# Altium schematic symbol library VESC_MotorController.SCHLIB: 43 symbols
Pins are listed as number, name and electrical type; pins without a type are passive.

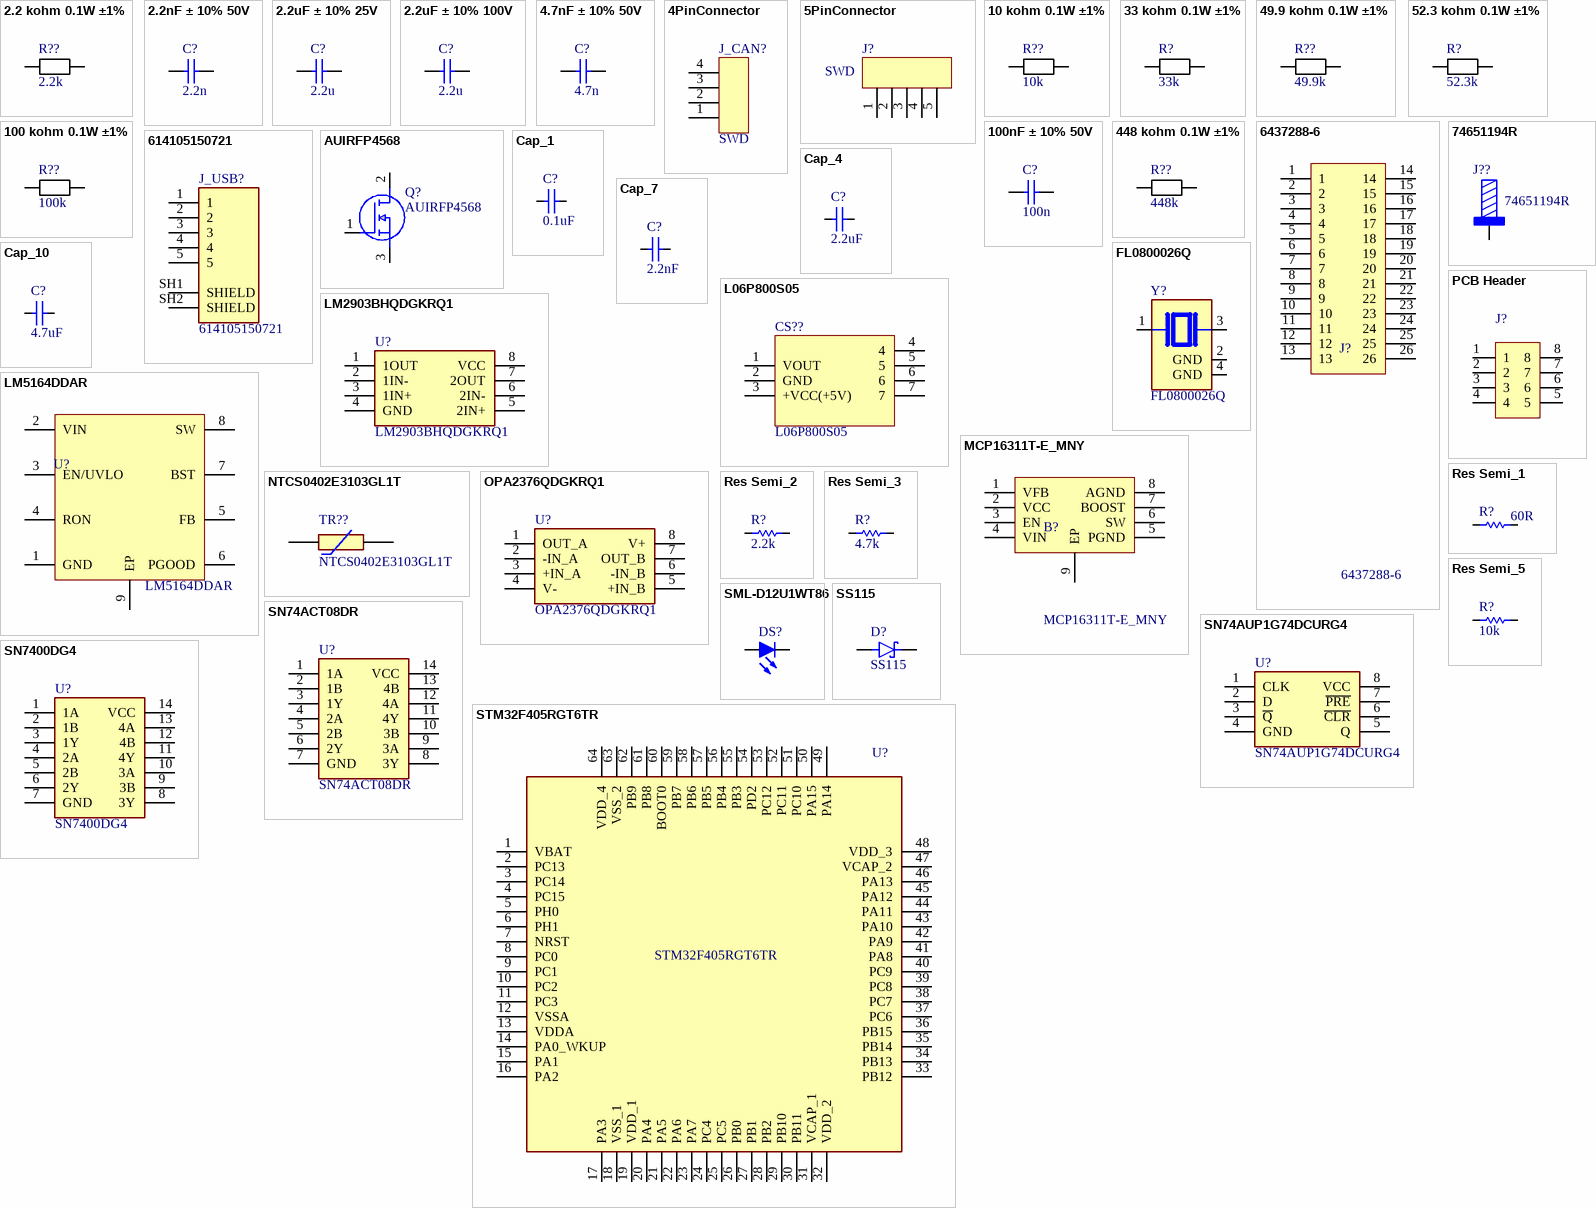
[diagram p0: symbols 2.2 kohm 0.1W ±1% to STM32F405RGT6TR]

## 2.2 kohm 0.1W ±1%
designator R??, comment 2.2k
2.2 kohm 0.1W ±1%; Manufacturer Part Number: RC0603FR-072K2L; Manufacturer: Yageo; Value: 2.2k; Supplier: Mouser; Supplier Part Number: 603-RC0603FR-072K2L; Price: 0.1
footprint R0603 (Footprint not found)
pins: 1, 2

## 2.2nF ± 10% 50V
designator C?, comment 2.2n
2.2nF ± 10% 50V; Manufacturer: Yageo; Price: 0.1; Supplier: Mouser; Value: 2.2n
footprint C0603 (Footprint not found)
pins: 1, 2

## 2.2uF ± 10% 25V
designator C?, comment 2.2u
2.2uF ± 10% 25V; Value: 2.2u
footprint * (Footprint not found)
pins: 1, 2

## 2.2uF ± 10% 100V
designator C?, comment 2.2u
2.2uF ± 10% 100V; Value: 2.2u
footprint * (Footprint not found)
pins: 1, 2

## 4.7nF ± 10% 50V
designator C?, comment 4.7n
4.7nF ± 10% 50V; Manufacturer: Yageo; Price: 0.1; Supplier: Mouser; Value: 4.7n
footprint C0603 (Footprint not found)
pins: 1, 2

## 4PinConnector
designator J_CAN?, comment SWD
4PinConnector
footprint Header-2.54m-4pin
pins: 1, 2, 3, 4

## 5PinConnector
designator J?, comment SWD
5PinConnector
footprint Header-2.54m-5pin
pins: 1, 2, 3, 4, 5

## 10 kohm 0.1W ±1%
designator R??, comment 10k
10 kohm 0.1W ±1%; Manufacturer Part Number: RC0603FR-0710KL; Manufacturer: Yageo; Value: 10k; Supplier: Mouser; Supplier Part Number: 603-RC0603FR-0710KL; Price: 0.1
footprint R0603 (Footprint not found)
pins: 1, 2

## 33 kohm 0.1W ±1%
designator R?, comment 33k
33 kohm 0.1W ±1%; Manufacturer Part Number: RC0603FR-0733KL; Manufacturer: Yageo; Value: 33k; Supplier: Mouser; Supplier Part Number: 603-RC0603FR-0733KL; Price: 0.1
footprint R0603 (Footprint not found)
pins: 1, 2

## 49.9 kohm 0.1W ±1%
designator R??, comment 49.9k
49.9 kohm 0.1W ±1%; Manufacturer Part Number: RC0603FR-0749K9L; Manufacturer: Yageo; Value: 49.9k; Supplier: Mouser; Supplier Part Number: 603-RC0603FR-0749K9L; Price: 0.1
footprint R0603 (Footprint not found)
pins: 1, 2

## 52.3 kohm 0.1W ±1%
designator R?, comment 52.3k
52.3 kohm 0.1W ±1%; Manufacturer Part Number: RC0603FR-0752K3L; Manufacturer: Yageo; Value: 52.3k; Supplier: Mouser; Supplier Part Number: 603-RC0603FR-0752K3L; Price: 0.1
footprint R0603 (Footprint not found)
pins: 1, 2

## 100 kohm 0.1W ±1%
designator R??, comment 100k
100 kohm 0.1W ±1%; Manufacturer Part Number: RC0603FR-07100KL; Manufacturer: Yageo; Value: 100k; Supplier: Mouser; Supplier Part Number: 603-RC0603FR-07100KL; Price: 0.1
footprint R0603 (Footprint not found)
pins: 1, 2

## 100nF ± 10% 50V
designator C?, comment 100n
100nF ± 10% 50V; Manufacturer: Yageo; Manufacturer Part Number: CC0603KRX7R9BB104; Supplier Part Number: 603-CC603KRX7R9BB104; Price: 0.1; Supplier: Mouser; Value: 100n
footprint C0603 (Footprint not found)
pins: 1, 2

## 448 kohm 0.1W ±1%
designator R??, comment 448k
448 kohm 0.1W ±1%; Manufacturer Part Number: RC0603FR-07448KL; Manufacturer: Yageo; Value: 448k; Supplier: Mouser; Supplier Part Number: 603-RC0603FR-07448KL; Price: 0.1
footprint R0603 (Footprint not found)
pins: 1, 2

## 6437288-6
designator J?
Header vert 26 way 4 row Tab Superseal; Manufacturer: TE Connectivity; Supplier Part Number: 571-6437288-6; Manufacturer Part Number: 6437288-6; Supplier: Mouser; Value: 6437288-6
footprint 64372886
pins: 1, 2, 3, 4, 5, 6, 7, 8, 9, 10, 11, 12, 13, 14, 15, 16, 17, 18, 19, 20, 21, 22, 23, 24, 25, 26

## 74651194R
designator J??
WP-THRSH REDCUBE THR with external thread, M4 x 5mm, 85A; Manufacturer: Wurth Elektronik; Surface: Tin; ComponentLink1Description: Website Link; ComponentLink1URL: https://www.we-online.com/redexpert/article/74651194R?ad; ComponentLink2Description: Datasheet Link; ComponentLink2URL: https://www.we-online.com/redexpert/spec/74651194R?ad; Manufacturer Part Number: 74651194R; Category: REDCUBE THR; Match Code: WP-THRSH; Mount: Through Hole Reflow; Operating Temperature Max: 150°C; Operating Temperature Min: -55°C; Packaging: Tape and Reel; Length: 10mm; Width: 10mm; Height: 8.5mm; Material: Brass; Number of Pins: 9; Rated Current: 85A; Thread Length: 5mm; Thread Size: M4; Supplier: Mouser; Supplier Part Number: 710-74651195R; Price: 3.5; Value: 74651194R
footprint 74651194 (Shank, THR, 9 pins, 10x10mm, M4, thread 5mm)
pins: 1

## 614105150721
designator J_USB?
USB - micro B USB 2.0 Receptacle Connector 5 Position Through Hole; MF: Wurth Electronics; Package: None; Digi-Key_Part_Number: 732-5958-1-ND; MP: 614105150721; SnapEDA_Link: https://www.snapeda.com/parts/614105150721/Wurth%20Electronics%20Inc./view-part/1118291/?ref=snap; Value: *; Digi-Key_Purchase_URL: https://www.digikey.com/product-detail/en/w-rth-elektronik/614105150721/732-5958-1-ND/5047553?utm_source=snapeda&utm_medium=aggregator&utm_campaign=symbol
footprint WURTH_614105150721
pins: 1, 2, 3, 4, 5, SH1 SHIELD, SH2 SHIELD

## AUIRFP4568
designator Q?
MOSFET N-CHANNEL 100+; Manufacturer_Name: Infineon; Geometry.Height: 5.31mm; Mouser Part Number: 942-AUIRFP4568; Mouser Price/Stock: https://www.mouser.co.uk/ProductDetail/Infineon-IR/AUIRFP4568?qs=m1T3c8F5IUIdoWYie9aRBg%3D%3D; Manufacturer_Part_Number: AUIRFP4568; Datasheet Link: https://www.infineon.com/dgdl/auirfp4568.pdf?fileId=5546d462533600a4015355b1d8751458
footprint TO546P531X1558X2499-3P
pins: 1 G, 2 D, 3 S

## Cap_1
designator C?, comment 0.1uF
Multilayer Ceramic Capacitors MLCC - SMD/SMT 50 V 0.1uF X7R 0603 10%; Manufacturer: Yageo; Manufacturer Part Number: CC0603KPX7R9BB104; Supplier 1: Digi-Key; Supplier Part Number 1: 311-3567-1-ND
footprint SMD_C(0402)
simulation model CAP (Capacitor)
signal-integrity model Cap
pins: 1, 2

## Cap_4
designator C?, comment 2.2uF
Multilayer Ceramic Capacitors MLCC - SMD/SMT 2.2 uF 50 VDC 10% 1206 X7R AEC-Q200; Manufacturer: Yageo; Manufacturer Part Number: GCM31CR71H225KA55K; Supplier 1: Digi-Key; Supplier Part Number 1: 311-3567-1-ND
footprint SMD_C(0603)
simulation model CAP (Capacitor)
signal-integrity model Cap
pins: 1, 2

## Cap_7
designator C?, comment 2.2nF
PHE840MA6100MA04R17; Manufacturer: Yageo; Manufacturer Part Number: CC0603KPX7R9BB104; Supplier 1: Digi-Key; Supplier Part Number 1: 311-3567-1-ND
footprint SMD_C(0402)
simulation model CAP (Capacitor)
signal-integrity model Cap
pins: 1, 2

## Cap_10
designator C?, comment 4.7uF
PHE840MA6100MA04R17; Manufacturer: Yageo; Manufacturer Part Number: CC0603KPX7R9BB104; Supplier 1: Digi-Key; Supplier Part Number 1: 311-3567-1-ND
footprint SMD_C(0603)
simulation model CAP (Capacitor)
signal-integrity model Cap
pins: 1, 2

## FL0800026Q
designator Y?
8 MHz Â±30ppm Crystal 8pF 400 Ohms 4-SMD, No Lead; MF: Diodes Incorporated; Package: NON STANDARD-4 Diodes Inc.; Price: None; Check_prices: https://www.snapeda.com/parts/FL0800026Q/Diodes+Inc./view-part/?ref=eda; Value: *; SnapEDA_Link: https://www.snapeda.com/parts/FL0800026Q/Diodes+Inc./view-part/?ref=snap; MP: FL0800026Q; Availability: In Stock; Purchase-URL: https://pricing.snapeda.com/search?q=FL0800026Q&ref=eda
footprint XTAL_FL0800026Q
pins: 1, 2 GND (power), 3 2, 4 GND (power)

## L06P800S05
designator CS??
Board Mount Current Sensors Current Sensor, +/-800A, +5VDC, PCB, Open Loop, Aperture, 2.5V+/-1.5V Output; Manufacturer: Tamura; Supplier Part Number: 838-L06P800S05; Price: 20; Manufacturer Part Number: L06P800S05; Value: L06P800S05; Supplier: Mouser
footprint L06P800S05
pins: 1 VOUT, 2 GND, 3 +VCC(+5V), 4, 5, 6, 7

## LM2903BHQDGKRQ1
designator U?
Analog Comparators Automotive, dual, differential, commodity comparator; Manufacturer_Name: Texas Instruments; Geometry.Height: 1.1mm; Mouser Part Number: 595-LM2903BHQDGKRQ1; Mouser Price/Stock: https://www.mouser.co.uk/ProductDetail/Texas-Instruments/LM2903BHQDGKRQ1?qs=By6Nw2ByBD2mW87GUmotXw%3D%3D; Manufacturer_Part_Number: LM2903BHQDGKRQ1; Datasheet Link: https://www.ti.com/lit/ds/symlink/lm2903b-q1.pdf?HQS=dis-mous-null-mousermode-dsf-pf-null-wwe&ts=1670767488652&ref_url=https%253A%252F%252Fwww.mouser.de%252F
footprint SOP65P490X110-8N
pins: 1 1OUT, 2 1IN-, 3 1IN+, 4 GND, 5 2IN+, 6 2IN-, 7 2OUT, 8 VCC

## LM5164DDAR
designator U?
Texas Instruments 6-V to 100-V Input, 1-A Synchronous Buck DC-DC Converter With Ultra-Low IQ 8-SO PowerPAD -40 to 150; Value: 1.7mm; Supplier Part Number: 595-LM5164DDAR; Price: 3.5; Manufacturer: Texas Instruments; Manufacturer Part Number: LM5164DDAR; Supplier: Mouser
footprint SOIC-8(EPAD) (Footprint not found)
pins: 1 GND, 2 VIN, 3 EN/UVLO, 4 RON, 5 FB, 6 PGOOD, 7 BST, 8 SW, 9 EP

## MCP16311T-E_MNY
designator B?
Microchip, MCP16311T-E/MNY Step Down DC-DC Converter 1A Adjustable, 2  24 V 8-Pin, TDFN; Supplier Part Number: 579-MCP16311T-E/MNY; Price: 1.8; Manufacturer: Microchip; Manufacturer Part Number: MCP16311T-E/MNY; Value: MCP16311T-E/MNY; Supplier: Mouser
footprint MSOP-8
pins: 1 VFB, 2 VCC, 3 EN, 4 VIN, 5 PGND, 6 SW, 7 BOOST, 8 AGND, 9 EP

## NTCS0402E3103GL1T
designator TR??
NTC Thermistors 10Kohms 2% AEC-Q200; Manufacturer_Name: Vishay; Geometry.Height: 0.65mm; Mouser Part Number: 594-NTCS402E3103GL1T; Mouser Price/Stock: https://www.mouser.co.uk/ProductDetail/Vishay-BC-Components/NTCS0402E3103GL1T?qs=u16ybLDytRYI8lwq3wWutw%3D%3D; Manufacturer_Part_Number: NTCS0402E3103GL1T; Datasheet Link: https://www.mouser.in/datasheet/2/427/ntcs0402e3t-1762119.pdf
footprint THRMC1005X65N
pins: 1, 2

## OPA2376QDGKRQ1
designator U?
Low Noise, Low Quiescent Current, Precision Operational Amplifier e-trim/trade; Manufacturer_Name: Texas Instruments; Geometry.Height: 1.1mm; Mouser Part Number: 595-OPA2376QDGKRQ1; Mouser Price/Stock: https://www.mouser.co.uk/ProductDetail/Texas-Instruments/OPA2376QDGKRQ1?qs=zEmsApcVOkU338m46%2F1O7A%3D%3D; Manufacturer_Part_Number: OPA2376QDGKRQ1; Datasheet Link: http://www.ti.com/lit/gpn/opa2376-q1
footprint SOP65P490X110-8N
pins: 1 OUT_A, 2 -IN_A, 3 +IN_A, 4 V-, 5 +IN_B, 6 -IN_B, 7 OUT_B, 8 V+

## PCB Header
designator J?
2 Row 2.54mm Pitch 8 pins
footprint * (Footprint not found)
pins: 1, 2, 3, 4, 5, 6, 7, 8

## Res Semi_1
designator R?, comment 60R
CRCW04024R02FKED; Published: 8-Jun-2000; LatestRevisionDate: 17-Jul-2002; LatestRevisionNote: Re-released for DXP Platform.; PackageReference: AXIAL-0.5; Publisher: Altium Limited; PackageDescription: Axial Device, Thru-Hole; 2 Leads; 0.5 in Pin Spacing
footprint SMD_R(0402)
simulation model RES (Semiconductor Resistor)
signal-integrity model Res Semi
pins: 1, 2

## Res Semi_2
designator R?, comment 2.2k
CRCW04024R02FKED; Published: 8-Jun-2000; LatestRevisionDate: 17-Jul-2002; LatestRevisionNote: Re-released for DXP Platform.; PackageReference: AXIAL-0.5; Publisher: Altium Limited; PackageDescription: Axial Device, Thru-Hole; 2 Leads; 0.5 in Pin Spacing
footprint SMD_R(0402)
simulation model RES (Semiconductor Resistor)
signal-integrity model Res Semi
pins: 1, 2

## Res Semi_3
designator R?, comment 4.7k
CRCW04024R02FKED; Published: 8-Jun-2000; LatestRevisionDate: 17-Jul-2002; LatestRevisionNote: Re-released for DXP Platform.; PackageReference: AXIAL-0.5; Publisher: Altium Limited; PackageDescription: Axial Device, Thru-Hole; 2 Leads; 0.5 in Pin Spacing
footprint SMD_R(0402)
simulation model RES (Semiconductor Resistor)
signal-integrity model Res Semi
pins: 1, 2

## Res Semi_5
designator R?, comment 10k
CRCW04024R02FKED; Published: 8-Jun-2000; LatestRevisionDate: 17-Jul-2002; LatestRevisionNote: Re-released for DXP Platform.; PackageReference: AXIAL-0.5; Publisher: Altium Limited; PackageDescription: Axial Device, Thru-Hole; 2 Leads; 0.5 in Pin Spacing
footprint SMD_R(0402)
simulation model RES (Semiconductor Resistor)
signal-integrity model Res Semi
pins: 1, 2

## SML-D12U1WT86
designator DS?  (value not drawn)
Typical RED GaAs LED; Manufacturer: Rohm Semiconductor; Supplier: Mouser; Supplier Part Number: 755-SML-D12U1WT86; Manufacturer Part Number: SML-D12U1WT86; Value: SML-D12U1WT86; Price: 0.2
footprint LED0603 (Footprint not found)
footprint LED0603
pins: A, C

## SN74ACT08DR
designator U?
Texas Instruments SN74ACT08DR, AND Quad 2 Input AND, 4.5  5.5 V, 14-Pin SOIC; Geometry.Height: 1.75mm; Mouser Part Number: 595-SN74ACT08DR; Mouser Price/Stock: https://www.mouser.co.uk/ProductDetail/Texas-Instruments/SN74ACT08DR?qs=AMJt07B76uu%2FkRdXJtIwhw%3D%3D; Manufacturer_Name: Texas Instruments; Manufacturer_Part_Number: SN74ACT08DR; Datasheet Link: http://www.ti.com/lit/gpn/sn74act08
footprint SOIC127P600X175-14N
pins: 1 1A, 2 1B, 3 1Y, 4 2A, 5 2B, 6 2Y, 7 GND, 8 3Y, 9 3A, 10 3B, 11 4Y, 12 4A, 13 4B, 14 VCC

## SN74AUP1G74DCURG4
designator U?
Flip Flops Lo PWR SNGL Pos Edge Trgrd DType FlipFlop; Manufacturer_Name: Texas Instruments; Geometry.Height: 0.9mm; Mouser Part Number: 595-74AUP1G74DCURG4; Mouser Price/Stock: https://www.mouser.co.uk/ProductDetail/Texas-Instruments/SN74AUP1G74DCURG4?qs=7kv20MEVUlhYDCdFtbMd%2FA%3D%3D; Manufacturer_Part_Number: SN74AUP1G74DCURG4; Datasheet Link: *
footprint SOP50P310X90-8N
pins: 1 CLK, 2 D, 3 ~{Q}, 4 GND, 5 Q, 6 ~{CLR}, 7 ~{PRE}, 8 VCC

## SN7400DG4
designator U?
NAND Gate 4-Element 2-IN Bipolar 14-Pin SOIC Tube; Manufacturer_Name: Texas Instruments; Geometry.Height: 1.75mm; Mouser Part Number: 595-SN7400DG4; Mouser Price/Stock: https://www.mouser.co.uk/ProductDetail/Texas-Instruments/SN7400DG4?qs=E8lYj0tdJGGtKkNRXTqCCA%3D%3D; Manufacturer_Part_Number: SN7400DG4; Datasheet Link: https://www.arrow.com/en/products/sn7400dg4/texas-instruments
footprint SOIC127P600X175-14N
pins: 1 1A, 2 1B, 3 1Y, 4 2A, 5 2B, 6 2Y, 7 GND, 8 3Y, 9 3B, 10 3A, 11 4Y, 12 4B, 13 4A, 14 VCC

## SS115
designator D?
1A, 150V, Schottky Rectifier; MF: Taiwan Semiconductor; Package: DO-214AC-2 Taiwan Semiconductor; Check_prices: https://www.snapeda.com/parts/SS115/Taiwan+Semiconductor/view-part/?ref=eda; Value: *; Price: None; Purchase-URL: https://pricing.snapeda.com/search/part/SS115/?ref=eda; MP: SS115; SnapEDA_Link: https://www.snapeda.com/parts/SS115/Taiwan+Semiconductor/view-part/?ref=snap; Availability: In Stock
footprint DIOM4325X250N
pins: A, C K

## STM32F405RGT6TR
designator U?
STM32F405RGT6TR, 32 bit ARM Cortex M4 MCU 168MHz 1024 kB Flash, 192 kB RAM, 2xUSB CAN I2C 64-Pin LQFP; Manufacturer_Name: STMicroelectronics; Geometry.Height: 1.6mm; Mouser Part Number: 511-STM32F405RGT6TR; Mouser Price/Stock: https://www.mouser.co.uk/ProductDetail/STMicroelectronics/STM32F405RGT6TR?qs=MavH1QghrkHshpR6GkvPIg%3D%3D; Manufacturer_Part_Number: STM32F405RGT6TR; Datasheet Link: http://www.st.com/web/en/resource/technical/document/datasheet/DM00037051.pdf
footprint QFP50P1200X1200X160-64N
pins: 1 VBAT, 2 PC13, 3 PC14, 4 PC15, 5 PH0, 6 PH1, 7 NRST, 8 PC0, 9 PC1, 10 PC2, 11 PC3, 12 VSSA, 13 VDDA, 14 PA0_WKUP, 15 PA1, 16 PA2, 17 PA3, 18 VSS_1, 19 VDD_1, 20 PA4, 21 PA5, 22 PA6, 23 PA7, 24 PC4, 25 PC5, 26 PB0, 27 PB1, 28 PB2, 29 PB10, 30 PB11, 31 VCAP_1, 32 VDD_2, 33 PB12, 34 PB13, 35 PB14, 36 PB15, 37 PC6, 38 PC7, 39 PC8, 40 PC9, 41 PA8, 42 PA9, 43 PA10, 44 PA11, 45 PA12, 46 PA13, 47 VCAP_2, 48 VDD_3, 49 PA14, 50 PA15, 51 PC10, 52 PC11, 53 PC12, 54 PD2, 55 PB3, 56 PB4, 57 PB5, 58 PB6, 59 PB7, 60 BOOT0, 61 PB8, 62 PB9, 63 VSS_2, 64 VDD_4

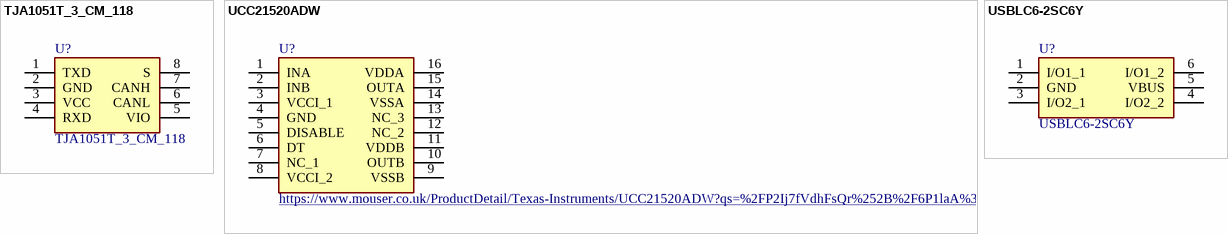
[diagram p1: symbols TJA1051T_3_CM_118 to USBLC6-2SC6Y]

## TJA1051T_3_CM_118
designator U?
CAN Interface IC BL Advanced Automotive Analog; Manufacturer_Name: NXP; Manufacturer_Part_Number: TJA1051T/3/CM,118; Geometry.Height: 1.75mm; Mouser Part Number: 771-TJA1051T/3CM118; Mouser Price/Stock: https://www.mouser.co.uk/ProductDetail/NXP-Semiconductors/TJA1051T-3-CM118?qs=5XOdhvmYM0NUkmo%252BpXvJfw%3D%3D; Datasheet Link: http://www.nxp.com/docs/en/data-sheet/TJA1051.pdf
footprint SOIC127P600X175-8N
pins: 1 TXD, 2 GND, 3 VCC (power), 4 RXD, 5 VIO, 6 CANL, 7 CANH, 8 S

## UCC21520ADW
designator U?, comment https://www.mouser.co.uk/ProductDetail/Texas-Instruments/UCC21520ADW?qs=%2FP2Ij7fVdhFsQr%252B%2F6P1laA%3D%3D
4A/6A, 5.7 kVrms Isolated Dual Channel Gate Driver; Manufacturer: Texas Instruments; Supplier Part Number: 595-UCC21520ADW; Value: https://www.mouser.co.uk/ProductDetail/Texas-Instruments/UCC21520ADW?qs=%2FP2Ij7fVdhFsQr%252B%2F6P1laA%3D%3D; Manufacturer Part Number: UCC21520ADW; Price: http://www.ti.com/lit/gpn/ucc21520; Supplier: 2.65mm
footprint SOIC127P1030X265-16N
pins: 1 INA, 2 INB, 3 VCCI_1, 4 GND, 5 DISABLE, 6 DT, 7 NC_1, 8 VCCI_2, 9 VSSB, 10 OUTB, 11 VDDB, 12 NC_2, 13 NC_3, 14 VSSA, 15 OUTA, 16 VDDA

## USBLC6-2SC6Y
designator U?
Low Cap. ESD Protection Auto SOT-23-6 STMicroelectronics USBLC6-2SC6Y, Dual Uni-Directional TVS Diode Array, 6-Pin SOT-23; Geometry.Height: 1.45mm; Mouser Part Number: 511-USBLC6-2SC6Y; Mouser Price/Stock: https://www.mouser.co.uk/ProductDetail/STMicroelectronics/USBLC6-2SC6Y?qs=gNDSiZmRJS%2FOgDexvXkdow%3D%3D; Manufacturer_Name: STMicroelectronics; Manufacturer_Part_Number: USBLC6-2SC6Y; Datasheet Link: https://componentsearchengine.com/Datasheets/1/USBLC6-2SC6Y.pdf
footprint SOT95P280X145-6N
pins: 1 I/O1_1, 2 GND, 3 I/O2_1, 4 I/O2_2, 5 VBUS, 6 I/O1_2